# EAGLE library part RGBW_LED (library rc)
!!!!!!!pinout NOT tested!!!!!!!!!!
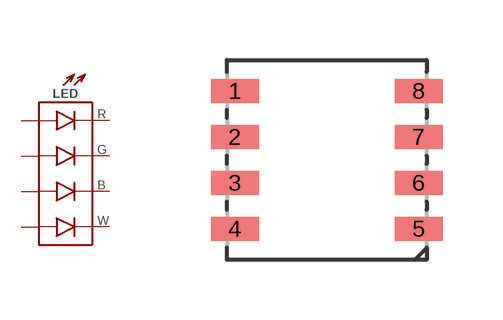
[diagram p0: symbol with the pads of LED5050-8PIN; footprint LED5050-8PIN]

Designator prefix LED

## RGBW_LED (LCSC#: C784545; MANF: TCWIN; MANF#: TC5050RGBW6D06-4CSAR3-AFW603A)  [LED5050-8PIN]
1  RA
2  GA
3  BA
4  WA
5  WC
6  BC
7  GC
8  RC

## Footprint LED5050-8PIN (pad centres in mm)
smd 1.2 x 0.6: 1 -2.3,1.725; 2 -2.3,0.575; 3 -2.3,-0.575; 4 -2.3,-1.725; 5 2.3,-1.725; 6 2.3,-0.575; 7 2.3,0.575; 8 2.3,1.725